# EAGLE library part MOS-N-PQFN6 (library Transistor)
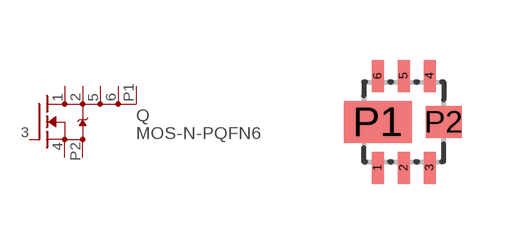
[diagram p2: symbol with the pads of PQFN6; footprint PQFN6]

Designator prefix Q

## MOS-N-PQFN6  [PQFN6]
1  D  pas
2  D  pas
3  G  pas
4  S  pas
5  D  pas
6  D  pas
P1  D  pas
P2  S  pas

## Footprint PQFN6 (pad centres in mm)
smd 0.3 x 0.8: 1 -0.65,-1.15; 2 0,-1.15; 3 0.65,-1.15; 4 0.65,1.15; 5 0,1.15; 6 -0.65,1.15
smd 1.7 x 1.05: P1 -0.65,0
smd 0.9 x 0.8: P2 1,0